# Altium schematic symbol library MODEM.SCHLIB: 32 symbols
Pins are listed as number, name and electrical type; pins without a type are passive.

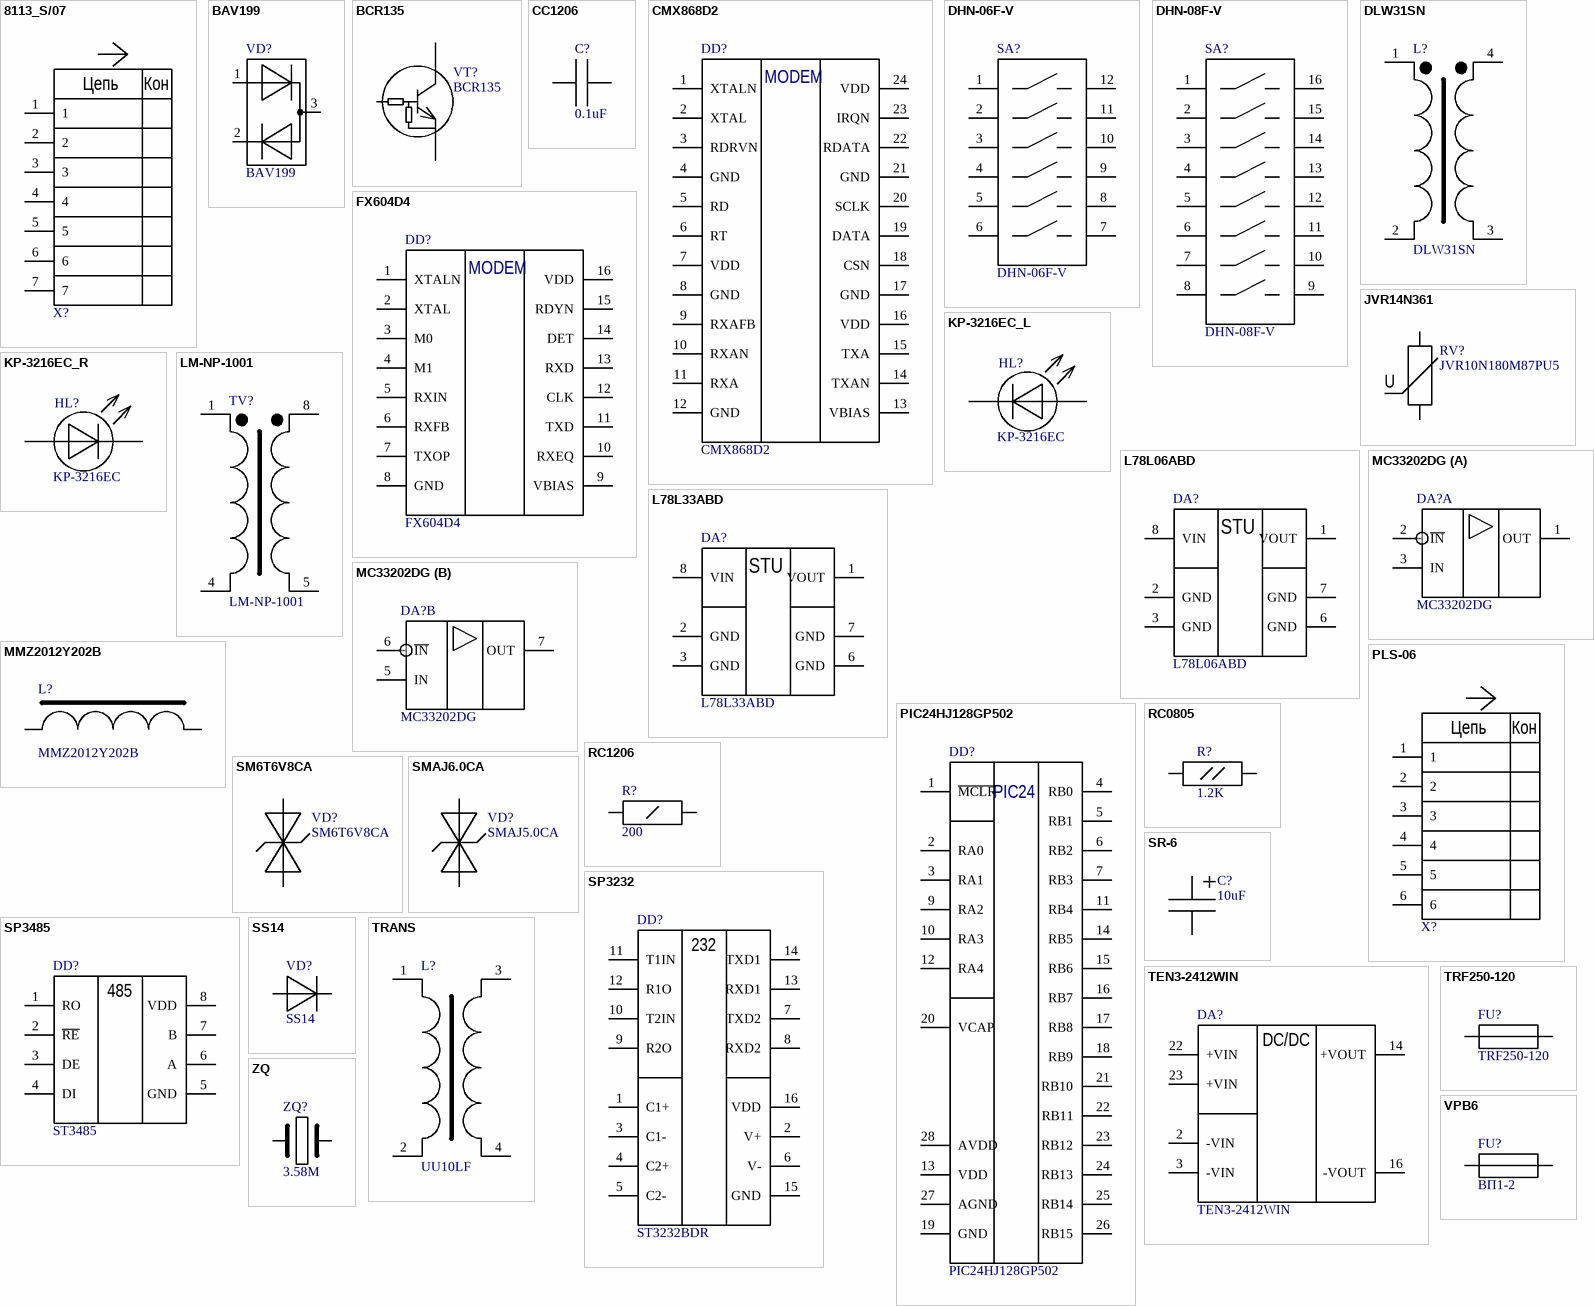
[diagram p0: symbols 8113_S/07 to ZQ]

## 8113_S/07
designator X?  (value not drawn)
footprint 8113_S/07
pins: 1, 2, 3, 4, 5, 6, 7
text: Цепь; Кон

## BAV199
designator VD?
footprint BAV199
pins: 1 A, 2 С, 3 AC

## BCR135
designator VT?
footprint BCR135
pins: 1 B, 2 E, 3 C

## CC1206
designator C?, comment 0.1uF
footprint CC1206
footprint CC0805
pins: 1, 2

## CMX868D2
designator DD?
footprint CMX868D2
pins: 1 XTALN, 2 XTAL, 3 RDRVN, 4 GND (power), 5 RD, 6 RT, 7 VDD (power), 8 GND (power), 9 RXAFB, 10 RXAN, 11 RXA, 12 GND (power), 13 VBIAS, 14 TXAN, 15 TXA, 16 VDD (power), 17 GND (power), 18 CSN, 19 DATA, 20 SCLK, 21 GND (power), 22 RDATA, 23 IRQN, 24 VDD (power)
text: MODEM

## DHN-06F-V
designator SA?
footprint DHN-06F-V
pins: 1, 2, 3, 4, 5, 6, 7, 8, 9, 10, 11, 12

## DHN-08F-V
designator SA?
footprint DHN-08F-V
pins: 1, 2, 3, 4, 5, 6, 7, 8, 9, 10, 11, 12, 13, 14, 15, 16

## DLW31SN
designator L?
footprint DLW31SN
pins: 1, 2, 3, 4

## FX604D4
designator DD?
footprint FX604D4
pins: 1 XTALN, 2 XTAL, 3 M0, 4 M1, 5 RXIN, 6 RXFB, 7 TXOP, 8 GND (power), 9 VBIAS, 10 RXEQ, 11 TXD, 12 CLK, 13 RXD, 14 DET, 15 RDYN, 16 VDD (power)
text: MODEM

## JVR14N361
designator RV?, comment JVR10N180M87PU5
footprint JVR14N361
footprint JVR07N330
pins: 1, 2
text: U

## KP-3216EC_L
designator HL?, comment KP-3216EC
footprint KP-3216EC
pins: 1 A, 2 С

## KP-3216EC_R
designator HL?, comment KP-3216EC
footprint KP-3216EC
pins: 1 A, 2 С

## L78L06ABD
designator DA?
footprint L78L06ABD
pins: 1 VOUT (power), 2 GND (power), 3 GND (power), 6 GND (power), 7 GND (power), 8 VIN (power)
text: STU

## L78L33ABD
designator DA?
footprint L78L06ABD
pins: 1 VOUT (power), 2 GND (power), 3 GND (power), 6 GND (power), 7 GND (power), 8 VIN (power)
text: STU

## LM-NP-1001
designator TV?
footprint LM-NP-1001
pins: 1, 4, 5, 8

## MC33202DG
designator DA?
footprint MC33202DG
pins on every part: 4 VSS (power) hidden to GND, 8 VDD (power) hidden to +12V
part A pins: 1 OUT, 2 ~{IN}, 3 IN
part B pins: 5 IN, 6 ~{IN}, 7 OUT

## MMZ2012Y202B
designator L?
pins: 1, 2

## PIC24HJ128GP502
designator DD?
footprint PIC24HJ128GP502
pins: 1 ~{MCLR}, 2 RA0, 3 RA1, 4 RB0, 5 RB1, 6 RB2, 7 RB3, 9 RA2, 10 RA3, 11 RB4, 12 RA4, 13 VDD (power), 14 RB5, 15 RB6, 16 RB7, 17 RB8, 18 RB9, 19 GND (power), 20 VCAP (power), 21 RB10, 22 RB11, 23 RB12, 24 RB13, 25 RB14, 26 RB15, 27 AGND (power), 28 AVDD (power)
text: PIC24

## PLS-06
designator X?  (value not drawn)
footprint PLS-06
pins: 1, 2, 3, 4, 5, 6
text: Цепь; Кон

## RC0805
designator R?, comment 1.2K
footprint RC0805
pins: 1, 2

## RC1206
designator R?, comment 200
footprint RC1206
pins: 1, 2

## SM6T6V8CA
designator VD?
footprint SM6T6V8CA
pins: 1 A, 2 С

## SMAJ6.0CA
designator VD?, comment SMAJ5.0CA
footprint SMAJ6.0CA
pins: 1 A, 2 С

## SP3232
designator DD?, comment ST3232BDR
pins: 1 C1+ (power), 2 V+ (power), 3 C1- (power), 4 C2+ (power), 5 C2- (power), 6 V- (power), 7 TXD2, 8 RXD2, 9 R2O, 10 T2IN, 11 T1IN, 12 R1O, 13 RXD1, 14 TXD1, 15 GND (power), 16 VDD (power)
text: 232

## SP3485
designator DD?, comment ST3485
footprint SP3485
pins: 1 RO, 2 ~{RE}, 3 DE, 4 DI, 5 GND (power), 6 A, 7 B, 8 VDD (power)
text: 485

## SR-6
designator C?, comment 10uF
footprint SH050-0611
footprint SH050-1019
pins: 1 C, 2 A

## SS14
designator VD?
footprint SS14
pins: 1 A, 2 С

## TEN3-2412WIN
designator DA?
footprint TEN3-2412WIN
pins: 2 -VIN (power), 3 -VIN (power), 14 +VOUT (power), 16 -VOUT (power), 22 +VIN (power), 23 +VIN (power)
text: DC/DC

## TRANS
designator L?, comment UU10LF
footprint TP-124-11
footprint UU10LF
pins: 1, 2, 3, 4

## TRF250-120
designator FU?
footprint TRF250-120
pins: 1, 2

## VPB6
designator FU?, comment ВП1-2
footprint ZH266
footprint VP1-2
pins: 1, 2

## ZQ
designator ZQ?, comment 3.58M
footprint HC-49/S
footprint TMXLi-206; pin to pad 2>4
pins: 1, 2